# EAGLE library part IRF5852 (library NA-2025)
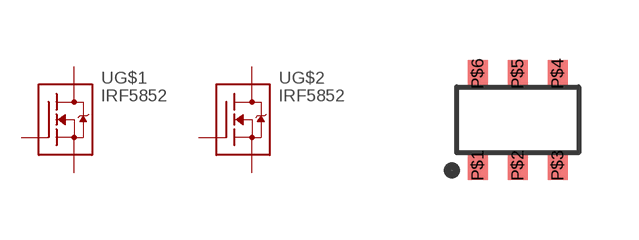
[diagram p54: symbol with the pads of TSOP-6; footprint TSOP-6]

Designator prefix -; gates G$1=N-MOSFET G$2=N-MOSFET

## IRF5852  [TSOP-6]
P$1  G$1:G1  pas
P$2  G$2:S1  pas
P$3  G$2:G1  pas
P$4  G$2:D1  pas
P$5  G$1:S1  pas
P$6  G$1:D1  pas

## Footprint TSOP-6 (pad centres in mm)
smd 0.5 x 0.7: P$1 -1,-1.15; P$2 0,-1.15; P$3 1,-1.15; P$4 1,1.15; P$5 0,1.15; P$6 -1,1.15